# EAGLE library part ADUM3440 (library FMC_prototype)
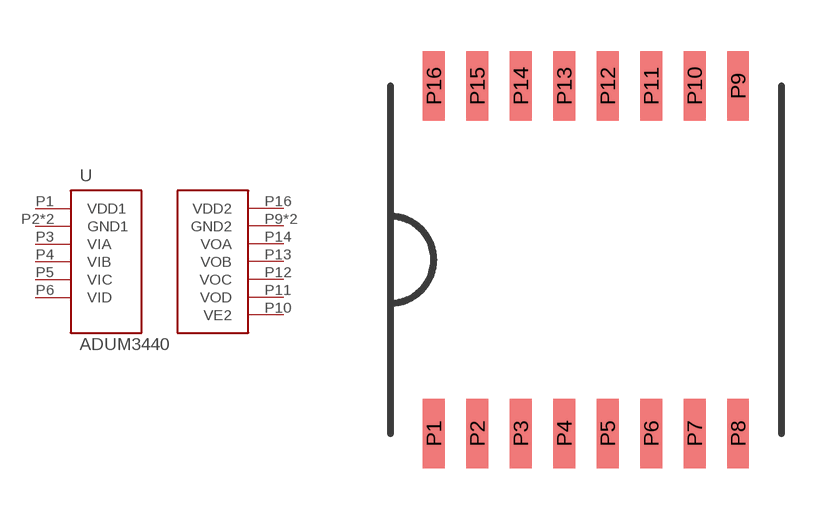
[diagram p3: symbol with the pads of SOIC_WIDE_16; footprint SOIC_WIDE_16]

Designator prefix -

## ADUM3440  [SOIC_WIDE_16]
P1  VDD1
P2  GND1
P3  VIA
P4  VIB
P5  VIC
P6  VID
P8  GND1
P9  GND2
P10  VE2
P11  VOD
P12  VOC
P13  VOB
P14  VOA
P15  GND2
P16  VDD2

## Footprint SOIC_WIDE_16 (pad centres in mm)
smd 0.635 x 2.032: P1 -4.445,-5.08; P2 -3.175,-5.08; P3 -1.905,-5.08; P4 -0.635,-5.08; P5 0.635,-5.08; P6 1.905,-5.08; P7 3.175,-5.08; P8 4.445,-5.08; P9 4.445,5.08; P10 3.175,5.08; P11 1.905,5.08; P12 0.635,5.08; P13 -0.635,5.08; P14 -1.905,5.08; P15 -3.175,5.08; P16 -4.445,5.08